# Altium footprint library Connector_PinHeader_2.00mm.PcbLib: 278 footprints (part 18 of 18)
Each footprint in its own frame and in the unit in brackets; x right, y up, seen from the top. Pads: shape width x height; smd on the part's side, far side on the other; paste and mask are expansions set on the pad; w line width, h text height; cw(c..) or ccw(c..) is an arc to the next point about the centre after c.
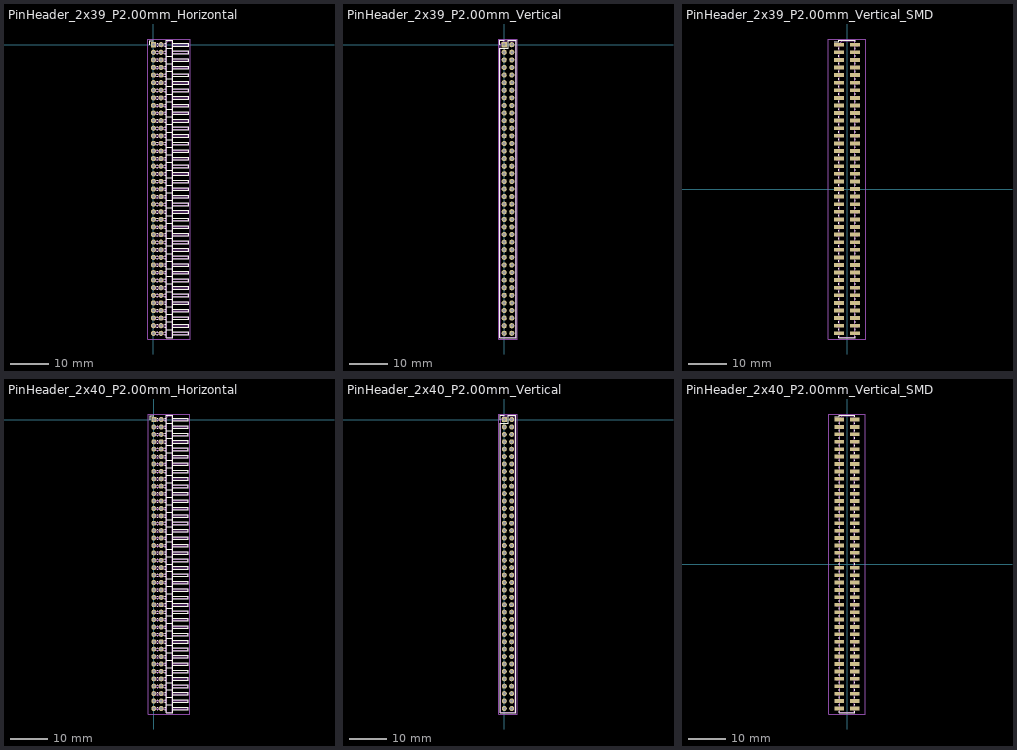
[diagram p17: the footprints below, top view; thin cyan lines are the x and y axes]

## PinHeader_2x39_P2.00mm_Horizontal [mm]
pads (78):
  rect 1.35x1.35 hole 0.8: 1(0,0)
  round 1.35 hole 0.8: 2(2,0) 3(0,-2) 4(2,-2) 5(0,-4) 6(2,-4) 7(0,-6) 8(2,-6) 9(0,-8) 10(2,-8) 11(0,-10) 12(2,-10) 13(0,-12) 14(2,-12) 15(0,-14) 16(2,-14) 17(0,-16) 18(2,-16) 19(0,-18) 20(2,-18) 21(0,-20) 22(2,-20) 23(0,-22) 24(2,-22) 25(0,-24) 26(2,-24) 27(0,-26) 28(2,-26) 29(0,-28) 30(2,-28) 31(0,-30) 32(2,-30) 33(0,-32) 34(2,-32) 35(0,-34) 36(2,-34) 37(0,-36) 38(2,-36) 39(0,-38) 40(2,-38) 41(0,-40) 42(2,-40) 43(0,-42) 44(2,-42) 45(0,-44) 46(2,-44) 47(0,-46) 48(2,-46) 49(0,-48) 50(2,-48) 51(0,-50) 52(2,-50) 53(0,-52) 54(2,-52) 55(0,-54) 56(2,-54) 57(0,-56) 58(2,-56) 59(0,-58) 60(2,-58) 61(0,-60) 62(2,-60) 63(0,-62) 64(2,-62) 65(0,-64) 66(2,-64) 67(0,-66) 68(2,-66) 69(0,-68) 70(2,-68) 71(0,-70) 72(2,-70) 73(0,-72) 74(2,-72) 75(0,-74) 76(2,-74) 77(0,-76) 78(2,-76)
F.SilkS:
  drawing of 318 lines, arcs and shapes, not listed
Top Assembly:
  drawing of 239 lines, arcs and shapes, not listed
  text "'.Designator'" at 5.006,-41.642 h0.9
Top Courtyard:
  lines w0.254: -1.5,-77.5 9.7,-77.5 9.7,1.5 -1.5,1.5 -1.5,-77.5
Top Designator:
  text ".Designator" at -3.518,-38.508 h1.52

## PinHeader_2x39_P2.00mm_Vertical [mm]
pads (78):
  rect 1.35x1.35 hole 0.8: 1(0,0)
  round 1.35 hole 0.8: 2(2,0) 3(0,-2) 4(2,-2) 5(0,-4) 6(2,-4) 7(0,-6) 8(2,-6) 9(0,-8) 10(2,-8) 11(0,-10) 12(2,-10) 13(0,-12) 14(2,-12) 15(0,-14) 16(2,-14) 17(0,-16) 18(2,-16) 19(0,-18) 20(2,-18) 21(0,-20) 22(2,-20) 23(0,-22) 24(2,-22) 25(0,-24) 26(2,-24) 27(0,-26) 28(2,-26) 29(0,-28) 30(2,-28) 31(0,-30) 32(2,-30) 33(0,-32) 34(2,-32) 35(0,-34) 36(2,-34) 37(0,-36) 38(2,-36) 39(0,-38) 40(2,-38) 41(0,-40) 42(2,-40) 43(0,-42) 44(2,-42) 45(0,-44) 46(2,-44) 47(0,-46) 48(2,-46) 49(0,-48) 50(2,-48) 51(0,-50) 52(2,-50) 53(0,-52) 54(2,-52) 55(0,-54) 56(2,-54) 57(0,-56) 58(2,-56) 59(0,-58) 60(2,-58) 61(0,-60) 62(2,-60) 63(0,-62) 64(2,-62) 65(0,-64) 66(2,-64) 67(0,-66) 68(2,-66) 69(0,-68) 70(2,-68) 71(0,-70) 72(2,-70) 73(0,-72) 74(2,-72) 75(0,-74) 76(2,-74) 77(0,-76) 78(2,-76)
F.SilkS:
  lines w0.254: -1.11,0 -1.11,1.11 0,1.11 ; -1.11,-77.11 3.11,-77.11 3.11,1.11 1,1.11 1,-1 -1.11,-1 -1.11,-77.11
Top Assembly:
  lines w0.254: -1,-77 3,-77 3,1 0,1 -1,0 -1,-77
  text "'.Designator'" at 1.84,-42.047 h1
Top Courtyard:
  lines w0.254: -1.5,-77.5 3.5,-77.5 3.5,1.5 -1.5,1.5 -1.5,-77.5
Top Designator:
  text ".Designator" at -6.618,-38.508 h1.52

## PinHeader_2x39_P2.00mm_Vertical_SMD [mm]
pads (78):
  rect 2.58x1 smd: 1(-2.085,38) 2(2.085,38) 3(-2.085,36) 4(2.085,36) 5(-2.085,34) 6(2.085,34) 7(-2.085,32) 8(2.085,32) 9(-2.085,30) 10(2.085,30) 11(-2.085,28) 12(2.085,28) 13(-2.085,26) 14(2.085,26) 15(-2.085,24) 16(2.085,24) 17(-2.085,22) 18(2.085,22) 19(-2.085,20) 20(2.085,20) 21(-2.085,18) 22(2.085,18) 23(-2.085,16) 24(2.085,16) 25(-2.085,14) 26(2.085,14) 27(-2.085,12) 28(2.085,12) 29(-2.085,10) 30(2.085,10) 31(-2.085,8) 32(2.085,8) 33(-2.085,6) 34(2.085,6) 35(-2.085,4) 36(2.085,4) 37(-2.085,2) 38(2.085,2) 39(-2.085,0) 40(2.085,0) 41(-2.085,-2) 42(2.085,-2) 43(-2.085,-4) 44(2.085,-4) 45(-2.085,-6) 46(2.085,-6) 47(-2.085,-8) 48(2.085,-8) 49(-2.085,-10) 50(2.085,-10) 51(-2.085,-12) 52(2.085,-12) 53(-2.085,-14) 54(2.085,-14) 55(-2.085,-16) 56(2.085,-16) 57(-2.085,-18) 58(2.085,-18) 59(-2.085,-20) 60(2.085,-20) 61(-2.085,-22) 62(2.085,-22) 63(-2.085,-24) 64(2.085,-24) 65(-2.085,-26) 66(2.085,-26) 67(-2.085,-28) 68(2.085,-28) 69(-2.085,-30) 70(2.085,-30) 71(-2.085,-32) 72(2.085,-32) 73(-2.085,-34) 74(2.085,-34) 75(-2.085,-36) 76(2.085,-36) 77(-2.085,-38) 78(2.085,-38)
F.SilkS:
  lines w0.254: -3.315,38.81 -2.11,38.81 -2.11,39.11 2.11,39.11 2.11,38.81 ; -2.11,-38.81 -2.11,-39.11 2.11,-39.11 2.11,-38.81 ; -2.11,-37.19 -2.11,-36.81 ; -2.11,-35.19 -2.11,-34.81 ; -2.11,-33.19 -2.11,-32.81 ; -2.11,-31.19 -2.11,-30.81 ; -2.11,-29.19 -2.11,-28.81 ; -2.11,-27.19 -2.11,-26.81 ; -2.11,-25.19 -2.11,-24.81 ; -2.11,-23.19 -2.11,-22.81 ; -2.11,-21.19 -2.11,-20.81 ; -2.11,-19.19 -2.11,-18.81 ; -2.11,-17.19 -2.11,-16.81 ; -2.11,-15.19 -2.11,-14.81 ; -2.11,-13.19 -2.11,-12.81 ; -2.11,-11.19 -2.11,-10.81 ; -2.11,-9.19 -2.11,-8.81 ; -2.11,-7.19 -2.11,-6.81 ; -2.11,-5.19 -2.11,-4.81 ; -2.11,-3.19 -2.11,-2.81 ; -2.11,-1.19 -2.11,-0.81 ; -2.11,0.81 -2.11,1.19 ; -2.11,2.81 -2.11,3.19 ; -2.11,4.81 -2.11,5.19 ; -2.11,6.81 -2.11,7.19 ; -2.11,8.81 -2.11,9.19 ; -2.11,10.81 -2.11,11.19 ; -2.11,12.81 -2.11,13.19 ; -2.11,14.81 -2.11,15.19 ; -2.11,16.81 -2.11,17.19 ; -2.11,18.81 -2.11,19.19 ; -2.11,20.81 -2.11,21.19 ; -2.11,22.81 -2.11,23.19 ; -2.11,24.81 -2.11,25.19 ; -2.11,26.81 -2.11,27.19 ; -2.11,28.81 -2.11,29.19 ; -2.11,30.81 -2.11,31.19 ; -2.11,32.81 -2.11,33.19 ; -2.11,34.81 -2.11,35.19 ; -2.11,36.81 -2.11,37.19 ; 2.11,-37.19 2.11,-36.81 ; 2.11,-35.19 2.11,-34.81 ; 2.11,-33.19 2.11,-32.81 ; 2.11,-31.19 2.11,-30.81 ; 2.11,-29.19 2.11,-28.81 ; 2.11,-27.19 2.11,-26.81 ; 2.11,-25.19 2.11,-24.81 ; 2.11,-23.19 2.11,-22.81 ; 2.11,-21.19 2.11,-20.81 ; 2.11,-19.19 2.11,-18.81 ; 2.11,-17.19 2.11,-16.81 ; 2.11,-15.19 2.11,-14.81 ; 2.11,-13.19 2.11,-12.81 ; 2.11,-11.19 2.11,-10.81 ; 2.11,-9.19 2.11,-8.81 ; 2.11,-7.19 2.11,-6.81 ; 2.11,-5.19 2.11,-4.81 ; 2.11,-3.19 2.11,-2.81 ; 2.11,-1.19 2.11,-0.81 ; 2.11,0.81 2.11,1.19 ; 2.11,2.81 2.11,3.19 ; 2.11,4.81 2.11,5.19 ; 2.11,6.81 2.11,7.19 ; 2.11,8.81 2.11,9.19 ; 2.11,10.81 2.11,11.19 ; 2.11,12.81 2.11,13.19 ; 2.11,14.81 2.11,15.19 ; 2.11,16.81 2.11,17.19 ; 2.11,18.81 2.11,19.19 ; 2.11,20.81 2.11,21.19 ; 2.11,22.81 2.11,23.19 ; 2.11,24.81 2.11,25.19 ; 2.11,26.81 2.11,27.19 ; 2.11,28.81 2.11,29.19 ; 2.11,30.81 2.11,31.19 ; 2.11,32.81 2.11,33.19 ; 2.11,34.81 2.11,35.19 ; 2.11,36.81 2.11,37.19
Top Assembly:
  drawing of 239 lines, arcs and shapes, not listed
  text "'.Designator'" at 0.84,-4.047 h1
Top Courtyard:
  lines w0.254: -4.88,-39.5 4.88,-39.5 4.88,39.5 -4.88,39.5 -4.88,-39.5
Top Designator:
  text ".Designator" at -7.618,-0.508 h1.52

## PinHeader_2x40_P2.00mm_Horizontal [mm]
pads (80):
  rect 1.35x1.35 hole 0.8: 1(0,0)
  round 1.35 hole 0.8: 2(2,0) 3(0,-2) 4(2,-2) 5(0,-4) 6(2,-4) 7(0,-6) 8(2,-6) 9(0,-8) 10(2,-8) 11(0,-10) 12(2,-10) 13(0,-12) 14(2,-12) 15(0,-14) 16(2,-14) 17(0,-16) 18(2,-16) 19(0,-18) 20(2,-18) 21(0,-20) 22(2,-20) 23(0,-22) 24(2,-22) 25(0,-24) 26(2,-24) 27(0,-26) 28(2,-26) 29(0,-28) 30(2,-28) 31(0,-30) 32(2,-30) 33(0,-32) 34(2,-32) 35(0,-34) 36(2,-34) 37(0,-36) 38(2,-36) 39(0,-38) 40(2,-38) 41(0,-40) 42(2,-40) 43(0,-42) 44(2,-42) 45(0,-44) 46(2,-44) 47(0,-46) 48(2,-46) 49(0,-48) 50(2,-48) 51(0,-50) 52(2,-50) 53(0,-52) 54(2,-52) 55(0,-54) 56(2,-54) 57(0,-56) 58(2,-56) 59(0,-58) 60(2,-58) 61(0,-60) 62(2,-60) 63(0,-62) 64(2,-62) 65(0,-64) 66(2,-64) 67(0,-66) 68(2,-66) 69(0,-68) 70(2,-68) 71(0,-70) 72(2,-70) 73(0,-72) 74(2,-72) 75(0,-74) 76(2,-74) 77(0,-76) 78(2,-76) 79(0,-78) 80(2,-78)
F.SilkS:
  drawing of 326 lines, arcs and shapes, not listed
Top Assembly:
  drawing of 245 lines, arcs and shapes, not listed
  text "'.Designator'" at 5.006,-42.642 h0.9
Top Courtyard:
  lines w0.254: -1.5,-79.5 9.7,-79.5 9.7,1.5 -1.5,1.5 -1.5,-79.5
Top Designator:
  text ".Designator" at -3.518,-39.508 h1.52

## PinHeader_2x40_P2.00mm_Vertical [mm]
pads (80):
  rect 1.35x1.35 hole 0.8: 1(0,0)
  round 1.35 hole 0.8: 2(2,0) 3(0,-2) 4(2,-2) 5(0,-4) 6(2,-4) 7(0,-6) 8(2,-6) 9(0,-8) 10(2,-8) 11(0,-10) 12(2,-10) 13(0,-12) 14(2,-12) 15(0,-14) 16(2,-14) 17(0,-16) 18(2,-16) 19(0,-18) 20(2,-18) 21(0,-20) 22(2,-20) 23(0,-22) 24(2,-22) 25(0,-24) 26(2,-24) 27(0,-26) 28(2,-26) 29(0,-28) 30(2,-28) 31(0,-30) 32(2,-30) 33(0,-32) 34(2,-32) 35(0,-34) 36(2,-34) 37(0,-36) 38(2,-36) 39(0,-38) 40(2,-38) 41(0,-40) 42(2,-40) 43(0,-42) 44(2,-42) 45(0,-44) 46(2,-44) 47(0,-46) 48(2,-46) 49(0,-48) 50(2,-48) 51(0,-50) 52(2,-50) 53(0,-52) 54(2,-52) 55(0,-54) 56(2,-54) 57(0,-56) 58(2,-56) 59(0,-58) 60(2,-58) 61(0,-60) 62(2,-60) 63(0,-62) 64(2,-62) 65(0,-64) 66(2,-64) 67(0,-66) 68(2,-66) 69(0,-68) 70(2,-68) 71(0,-70) 72(2,-70) 73(0,-72) 74(2,-72) 75(0,-74) 76(2,-74) 77(0,-76) 78(2,-76) 79(0,-78) 80(2,-78)
F.SilkS:
  lines w0.254: -1.11,0 -1.11,1.11 0,1.11 ; -1.11,-79.11 3.11,-79.11 3.11,1.11 1,1.11 1,-1 -1.11,-1 -1.11,-79.11
Top Assembly:
  lines w0.254: -1,-79 3,-79 3,1 0,1 -1,0 -1,-79
  text "'.Designator'" at 1.84,-43.047 h1
Top Courtyard:
  lines w0.254: -1.5,-79.5 3.5,-79.5 3.5,1.5 -1.5,1.5 -1.5,-79.5
Top Designator:
  text ".Designator" at -6.618,-39.508 h1.52

## PinHeader_2x40_P2.00mm_Vertical_SMD [mm]
pads (80):
  rect 2.58x1 smd: 1(-2.085,39) 2(2.085,39) 3(-2.085,37) 4(2.085,37) 5(-2.085,35) 6(2.085,35) 7(-2.085,33) 8(2.085,33) 9(-2.085,31) 10(2.085,31) 11(-2.085,29) 12(2.085,29) 13(-2.085,27) 14(2.085,27) 15(-2.085,25) 16(2.085,25) 17(-2.085,23) 18(2.085,23) 19(-2.085,21) 20(2.085,21) 21(-2.085,19) 22(2.085,19) 23(-2.085,17) 24(2.085,17) 25(-2.085,15) 26(2.085,15) 27(-2.085,13) 28(2.085,13) 29(-2.085,11) 30(2.085,11) 31(-2.085,9) 32(2.085,9) 33(-2.085,7) 34(2.085,7) 35(-2.085,5) 36(2.085,5) 37(-2.085,3) 38(2.085,3) 39(-2.085,1) 40(2.085,1) 41(-2.085,-1) 42(2.085,-1) 43(-2.085,-3) 44(2.085,-3) 45(-2.085,-5) 46(2.085,-5) 47(-2.085,-7) 48(2.085,-7) 49(-2.085,-9) 50(2.085,-9) 51(-2.085,-11) 52(2.085,-11) 53(-2.085,-13) 54(2.085,-13) 55(-2.085,-15) 56(2.085,-15) 57(-2.085,-17) 58(2.085,-17) 59(-2.085,-19) 60(2.085,-19) 61(-2.085,-21) 62(2.085,-21) 63(-2.085,-23) 64(2.085,-23) 65(-2.085,-25) 66(2.085,-25) 67(-2.085,-27) 68(2.085,-27) 69(-2.085,-29) 70(2.085,-29) 71(-2.085,-31) 72(2.085,-31) 73(-2.085,-33) 74(2.085,-33) 75(-2.085,-35) 76(2.085,-35) 77(-2.085,-37) 78(2.085,-37) 79(-2.085,-39) 80(2.085,-39)
F.SilkS:
  lines w0.254: -3.315,39.81 -2.11,39.81 -2.11,40.11 2.11,40.11 2.11,39.81 ; -2.11,-39.81 -2.11,-40.11 2.11,-40.11 2.11,-39.81 ; -2.11,-38.19 -2.11,-37.81 ; -2.11,-36.19 -2.11,-35.81 ; -2.11,-34.19 -2.11,-33.81 ; -2.11,-32.19 -2.11,-31.81 ; -2.11,-30.19 -2.11,-29.81 ; -2.11,-28.19 -2.11,-27.81 ; -2.11,-26.19 -2.11,-25.81 ; -2.11,-24.19 -2.11,-23.81 ; -2.11,-22.19 -2.11,-21.81 ; -2.11,-20.19 -2.11,-19.81 ; -2.11,-18.19 -2.11,-17.81 ; -2.11,-16.19 -2.11,-15.81 ; -2.11,-14.19 -2.11,-13.81 ; -2.11,-12.19 -2.11,-11.81 ; -2.11,-10.19 -2.11,-9.81 ; -2.11,-8.19 -2.11,-7.81 ; -2.11,-6.19 -2.11,-5.81 ; -2.11,-4.19 -2.11,-3.81 ; -2.11,-2.19 -2.11,-1.81 ; -2.11,-0.19 -2.11,0.19 ; -2.11,1.81 -2.11,2.19 ; -2.11,3.81 -2.11,4.19 ; -2.11,5.81 -2.11,6.19 ; -2.11,7.81 -2.11,8.19 ; -2.11,9.81 -2.11,10.19 ; -2.11,11.81 -2.11,12.19 ; -2.11,13.81 -2.11,14.19 ; -2.11,15.81 -2.11,16.19 ; -2.11,17.81 -2.11,18.19 ; -2.11,19.81 -2.11,20.19 ; -2.11,21.81 -2.11,22.19 ; -2.11,23.81 -2.11,24.19 ; -2.11,25.81 -2.11,26.19 ; -2.11,27.81 -2.11,28.19 ; -2.11,29.81 -2.11,30.19 ; -2.11,31.81 -2.11,32.19 ; -2.11,33.81 -2.11,34.19 ; -2.11,35.81 -2.11,36.19 ; -2.11,37.81 -2.11,38.19 ; 2.11,-38.19 2.11,-37.81 ; 2.11,-36.19 2.11,-35.81 ; 2.11,-34.19 2.11,-33.81 ; 2.11,-32.19 2.11,-31.81 ; 2.11,-30.19 2.11,-29.81 ; 2.11,-28.19 2.11,-27.81 ; 2.11,-26.19 2.11,-25.81 ; 2.11,-24.19 2.11,-23.81 ; 2.11,-22.19 2.11,-21.81 ; 2.11,-20.19 2.11,-19.81 ; 2.11,-18.19 2.11,-17.81 ; 2.11,-16.19 2.11,-15.81 ; 2.11,-14.19 2.11,-13.81 ; 2.11,-12.19 2.11,-11.81 ; 2.11,-10.19 2.11,-9.81 ; 2.11,-8.19 2.11,-7.81 ; 2.11,-6.19 2.11,-5.81 ; 2.11,-4.19 2.11,-3.81 ; 2.11,-2.19 2.11,-1.81 ; 2.11,-0.19 2.11,0.19 ; 2.11,1.81 2.11,2.19 ; 2.11,3.81 2.11,4.19 ; 2.11,5.81 2.11,6.19 ; 2.11,7.81 2.11,8.19 ; 2.11,9.81 2.11,10.19 ; 2.11,11.81 2.11,12.19 ; 2.11,13.81 2.11,14.19 ; 2.11,15.81 2.11,16.19 ; 2.11,17.81 2.11,18.19 ; 2.11,19.81 2.11,20.19 ; 2.11,21.81 2.11,22.19 ; 2.11,23.81 2.11,24.19 ; 2.11,25.81 2.11,26.19 ; 2.11,27.81 2.11,28.19 ; 2.11,29.81 2.11,30.19 ; 2.11,31.81 2.11,32.19 ; 2.11,33.81 2.11,34.19 ; 2.11,35.81 2.11,36.19 ; 2.11,37.81 2.11,38.19
Top Assembly:
  drawing of 245 lines, arcs and shapes, not listed
  text "'.Designator'" at 0.84,-4.047 h1
Top Courtyard:
  lines w0.254: -4.88,-40.5 4.88,-40.5 4.88,40.5 -4.88,40.5 -4.88,-40.5
Top Designator:
  text ".Designator" at -7.618,-0.508 h1.52